# Altium schematic symbol library IC_AUDIO.SchLib: 7 symbols
Pins are listed as number, name and electrical type; pins without a type are passive.

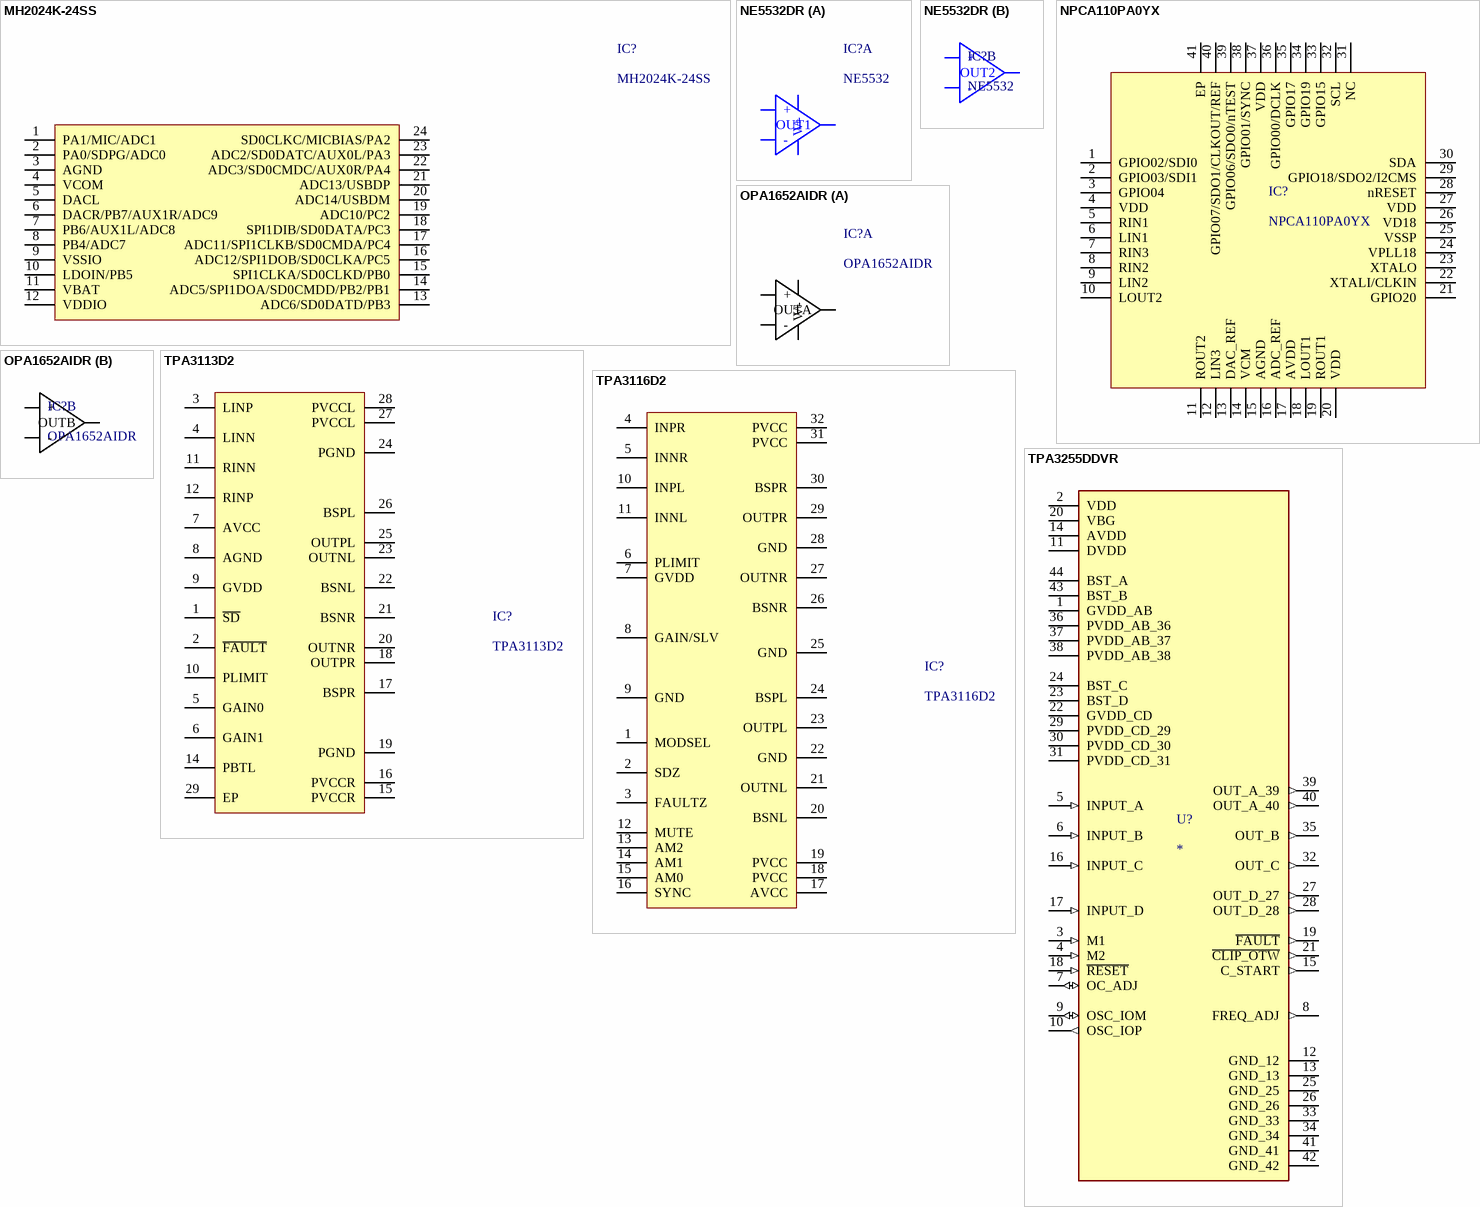
[diagram p0: symbols MH2024K-24SS to TPA3255DDVR]

## MH2024K-24SS
designator IC?
Compact MP3/WAV/WMA audio decoder module with built-in amplifier and TF/USB support for embedded systems and microcontroller projects.; Manufacturer: GD; Package: QSOP24
footprint QSOP-24
pins: 1 PA1/MIC/ADC1 , 2 PA0/SDPG/ADC0, 3 AGND, 4 VCOM, 5 DACL, 6 DACR/PB7/AUX1R/ADC9, 7 PB6/AUX1L/ADC8, 8 PB4/ADC7, 9 VSSIO, 10 LDOIN/PB5, 11 VBAT, 12 VDDIO, 13 ADC6/SD0DATD/PB3, 14 ADC5/SPI1DOA/SD0CMDD/PB2/PB1, 15 SPI1CLKA/SD0CLKD/PB0, 16 ADC12/SPI1DOB/SD0CLKA/PC5, 17 ADC11/SPI1CLKB/SD0CMDA/PC4, 18 SPI1DIB/SD0DATA/PC3, 19 ADC10/PC2, 20 ADC14/USBDM, 21 ADC13/USBDP, 22 ADC3/SD0CMDC/AUX0R/PA4, 23 ADC2/SD0DATC/AUX0L/PA3, 24 SD0CLKC/MICBIAS/PA2

## NE5532DR
designator IC?, comment NE5532
500uV 1uA 9V/us 100dB 16mA 10MHz 2 SOIC-8 Amplifiers RoHS; Manufacturer: TI; Mfr.Part #: NE5532DR; Package: SOIC-8; LCSC Part #: C7426; DigiKey Part Number: 296-13622-2-ND; ComponentLink1Description: Link; ComponentLink1URL: https://www.lcsc.com/product-detail/C7426.html?s_z=n_NE5532; ComponentLink2Description: Link 1; ComponentLink2URL: https://www.digikey.com/en/products/detail/texas-instruments/NE5532DR/499499
footprint SOIC-8
part A pins: 1 OUT1, 2 -, 3 +, 4 V- (power), 8 V+ (power)
part B pins: 5 +, 6 -, 7 OUT2

## NPCA110PA0YX
designator IC?
QFN-40-EP(6x6) Audio Amplifiers ROHS; Manufacturer: Nuvoton Tech; So_Chan_Dan: 41; So_Chan_Cam: 0; Mfr.Part #: NPCA110PA0YX; Package: QFN-40-EP(6x6); Name: NPCA110PA0YX
footprint QFN-40-EP(6x6)
pins: 1 GPIO02/SDI0, 2 GPIO03/SDI1, 3 GPIO04, 4 VDD, 5 RIN1, 6 LIN1, 7 RIN3, 8 RIN2, 9 LIN2, 10 LOUT2, 11 ROUT2, 12 LIN3, 13 DAC_REF, 14 VCM, 15 AGND, 16 ADC_REF, 17 AVDD, 18 LOUT1, 19 ROUT1, 20 VDD, 21 GPIO20, 22 XTALI/CLKIN, 23 XTALO, 24 VPLL18, 25 VSSP, 26 VD18, 27 VDD, 28 nRESET, 29 GPIO18/SDO2/I2CMS, 30 SDA, 31 NC, 32 SCL, 33 GPIO15, 34 GPIO19, 35 GPIO17, 36 GPIO00/DCLK, 37 VDD, 38 GPIO01/SYNC, 39 GPIO06/SDO0/nTEST, 40 GPIO07/SDO1/CLKOUT/REF, 41 EP

## OPA1652AIDR
designator IC?
2mA 2-Channel SOIC-8 Audio Amplifiers ROHS; Manufacturer: TI; Package: SOIC-8; Mfr.Part #: OPA1652AIDR; LCSC Part #: C30025
footprint SOIC-8
part A pins: 1 OUTA, 2 -, 3 +, 4 V- (power), 8 V+ (power)
part B pins: 5 +, 6 -, 7 OUTB

## TPA3113D2
designator IC?
Dual Channel 6Wx2@8Ω Class D Amplifier HTSSOP-28-EP-4.5mm Audio Amplifiers ROHS; Manufacturer: Texas Instruments; Mfr.Part #: TPA3113D2PWPR; Package: HTSSOP-28-EP-4.5mm; LCSC Part #: C128608
footprint HTSSOP-32-EP-6.1mm-TPA3116D2
pins: 1 ~{SD}, 2 ~{FAULT}, 3 LINP, 4 LINN, 5 GAIN0, 6 GAIN1, 7 AVCC, 8 AGND, 9 GVDD, 10 PLIMIT, 11 RINN, 12 RINP, 14 PBTL, 15 PVCCR, 16 PVCCR, 17 BSPR, 18 OUTPR, 19 PGND, 20 OUTNR, 21 BSNR, 22 BSNL, 23 OUTNL, 24 PGND, 25 OUTPL, 26 BSPL, 27 PVCCL, 28 PVCCL, 29 EP

## TPA3116D2
designator IC?
20mA 2-Channel 50Wx2@4Ω Class D HTSSOP-32-6.1mm Audio Amplifiers ROHS; Manufacturer: Texas Instruments; Mfr.Part #: TPA3116D2DADR; Package: HTSSOP-32-6.1mm; LCSC Part #: C50144
footprint HTSSOP-32-EP-6.1mm-TPA3116D2
pins: 1 MODSEL, 2 SDZ, 3 FAULTZ, 4 INPR, 5 INNR, 6 PLIMIT, 7 GVDD, 8 GAIN/SLV, 9 GND, 10 INPL, 11 INNL, 12 MUTE, 13 AM2, 14 AM1, 15 AM0, 16 SYNC, 17 AVCC, 18 PVCC, 19 PVCC, 20 BSNL, 21 OUTNL, 22 GND, 23 OUTPL, 24 BSPL, 25 GND, 26 BSNR, 27 OUTNR, 28 GND, 29 OUTPR, 30 BSPR, 31 PVCC, 32 PVCC

## TPA3255DDVR
designator U?
315-W stereo, 600-W mono, 18- to 53.5-V supply, analog input Class-D audio amplifier 44-HTSSOP 0 to 70; MP: TPA3255DDVR; Package: None; Availability: Unavailable; Price: None; Value: *
footprint HTSSOP-44-6.1mm-TPA3255
pins: 1 GVDD_AB (power), 2 VDD (power), 3 M1 (in), 4 M2 (in), 5 INPUT_A (in), 6 INPUT_B (in), 7 OC_ADJ (io), 8 FREQ_ADJ (out), 9 OSC_IOM (io), 10 OSC_IOP (out), 11 DVDD (power), 12 GND_12 (power), 13 GND_13 (power), 14 AVDD (power), 15 C_START (out), 16 INPUT_C (in), 17 INPUT_D (in), 18 ~{RESET} (in), 19 ~{FAULT} (out), 20 VBG (power), 21 ~{CLIP_OTW} (out), 22 GVDD_CD (power), 23 BST_D (power), 24 BST_C (power), 25 GND_25 (power), 26 GND_26 (power), 27 OUT_D_27 (out), 28 OUT_D_28 (out), 29 PVDD_CD_29 (power), 30 PVDD_CD_30 (power), 31 PVDD_CD_31 (power), 32 OUT_C (out), 33 GND_33 (power), 34 GND_34 (power), 35 OUT_B (out), 36 PVDD_AB_36 (power), 37 PVDD_AB_37 (power), 38 PVDD_AB_38 (power), 39 OUT_A_39 (out), 40 OUT_A_40 (out), 41 GND_41 (power), 42 GND_42 (power), 43 BST_B (power), 44 BST_A (power)